# EAGLE library part TVP5150A (library xess)
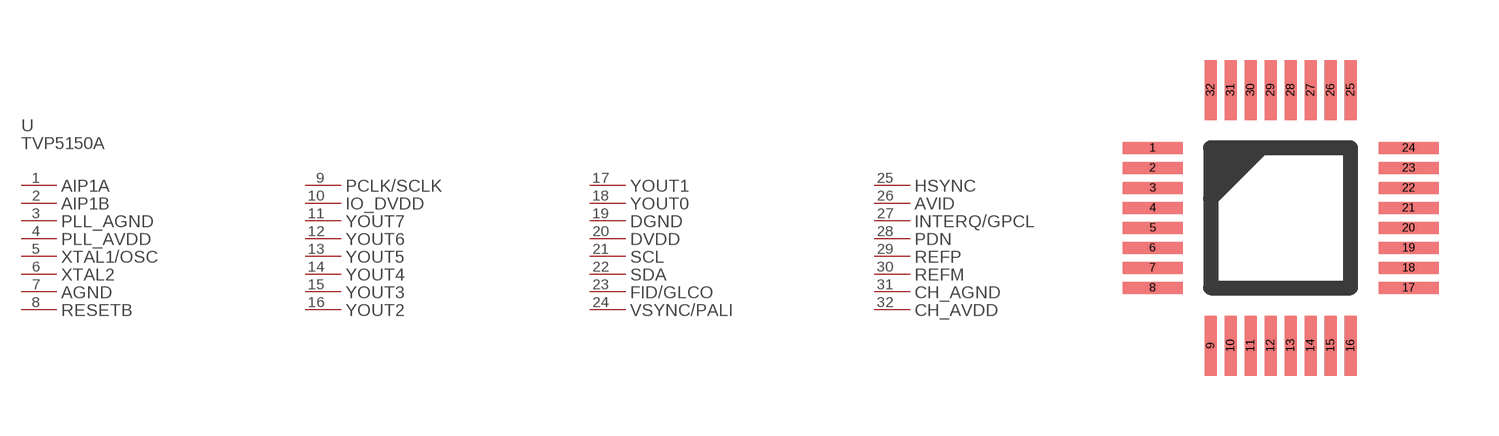
[diagram p45: symbol with the pads of TVP5150A; footprint TVP5150A]

Designator prefix U; gates PART_VALUE=PART_VALUE-TVP5150A AIP1A=PL-TVP5150A AIP1B=PL-TVP5150A PLL_AGND=PL-TVP5150A PLL_AVDD=PL-TVP5150A XTAL1/OSC=PL-TVP5150A XTAL2=PL-TVP5150A AGND=PL-TVP5150A RESETB=PL-TVP5150A PCLK/SCLK=PL-TVP5150A IO_DVDD=PL-TVP5150A YOUT7=PL-TVP5150A YOUT6=PL-TVP5150A YOUT5=PL-TVP5150A YOUT4=PL-TVP5150A YOUT3=PL-TVP5150A YOUT2=PL-TVP5150A YOUT1=PL-TVP5150A YOUT0=PL-TVP5150A DGND=PL-TVP5150A DVDD=PL-TVP5150A SCL=PL-TVP5150A SDA=PL-TVP5150A FID/GLCO=PL-TVP5150A VSYNC/PALI=PL-TVP5150A HSYNC=PL-TVP5150A AVID=PL-TVP5150A INTERQ/GPCL=PL-TVP5150A PDN=PL-TVP5150A REFP=PL-TVP5150A REFM=PL-TVP5150A CH_AGND=PL-TVP5150A CH_AVDD=PL-TVP5150A

## TVP5150A  [TVP5150A]
1  AIP1A:P$1
2  AIP1B:P$1
3  PLL_AGND:P$1
4  PLL_AVDD:P$1
5  XTAL1/OSC:P$1
6  XTAL2:P$1
7  AGND:P$1
8  RESETB:P$1
9  PCLK/SCLK:P$1
10  IO_DVDD:P$1
11  YOUT7:P$1
12  YOUT6:P$1
13  YOUT5:P$1
14  YOUT4:P$1
15  YOUT3:P$1
16  YOUT2:P$1
17  YOUT1:P$1
18  YOUT0:P$1
19  DGND:P$1
20  DVDD:P$1
21  SCL:P$1
22  SDA:P$1
23  FID/GLCO:P$1
24  VSYNC/PALI:P$1
25  HSYNC:P$1
26  AVID:P$1
27  INTERQ/GPCL:P$1
28  PDN:P$1
29  REFP:P$1
30  REFM:P$1
31  CH_AGND:P$1
32  CH_AVDD:P$1

## Footprint TVP5150A (pad centres in mm)
smd 1.5 x 0.3: 1 0,0; 2 0,-0.5; 3 0,-1; 4 0,-1.5; 5 0,-2; 6 0,-2.5; 7 0,-3; 8 0,-3.5; 17 6.4,-3.5; 18 6.4,-3; 19 6.4,-2.5; 20 6.4,-2; 21 6.4,-1.5; 22 6.4,-1; 23 6.4,-0.5; 24 6.4,0
smd 0.3 x 1.5: 9 1.45,-4.95; 10 1.95,-4.95; 11 2.45,-4.95; 12 2.95,-4.95; 13 3.45,-4.95; 14 3.95,-4.95; 15 4.45,-4.95; 16 4.95,-4.95; 25 4.95,1.45; 26 4.45,1.45; 27 3.95,1.45; 28 3.45,1.45; 29 2.95,1.45; 30 2.45,1.45; 31 1.95,1.45; 32 1.45,1.45